# Altium footprint library rev02.PcbLib: 52 footprints (part 3 of 4)
Each footprint in its own frame and in the unit in brackets; x right, y up, seen from the top. Pads: shape width x height; smd on the part's side, far side on the other; paste and mask are expansions set on the pad; w line width, h text height; cw(c..) or ccw(c..) is an arc to the next point about the centre after c.
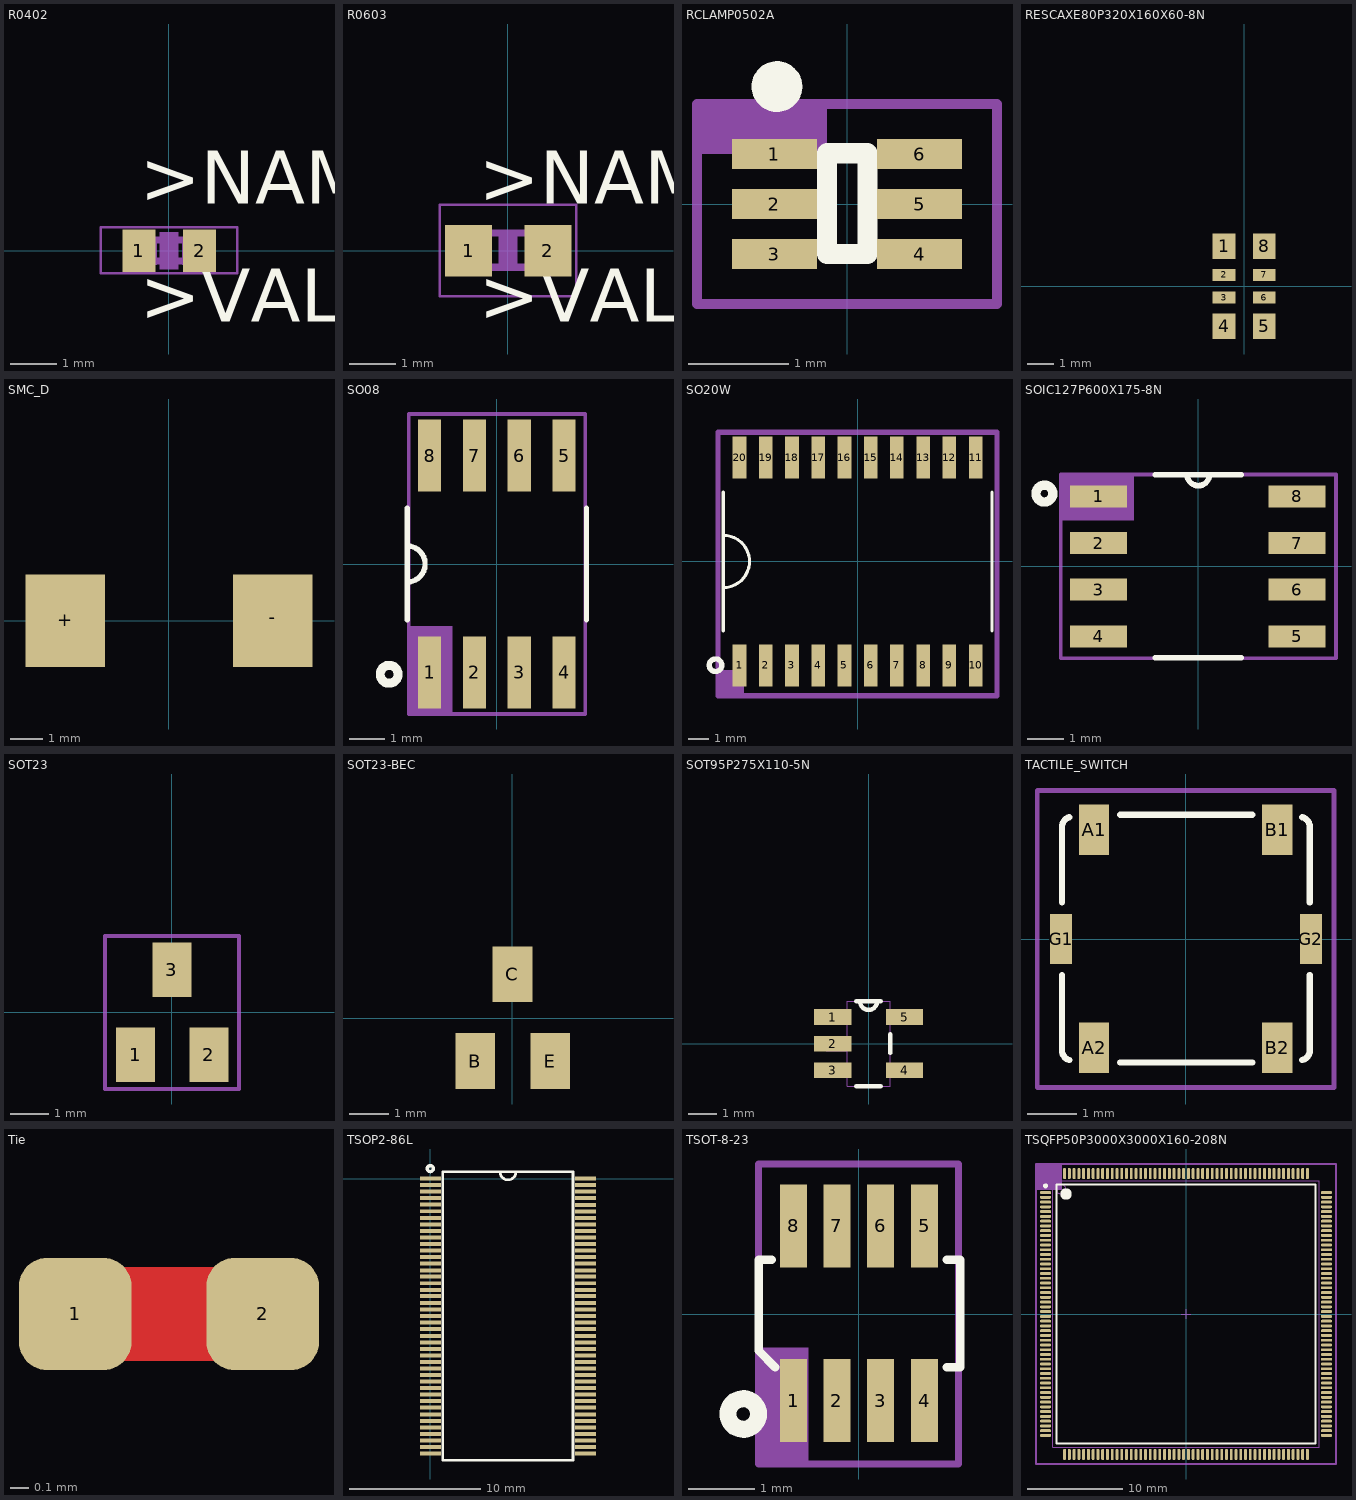
[diagram p2: the footprints below, top view; thin cyan lines are the x and y axes]

## R0402 [mil] "R0402"
pads (2):
  rect 28x36 smd: 1(-25.59,0) 2(26,0)
Top Overlay:
  text ">VALUE" at -25,-75 h77.5
  text ">NAME" at -25,25 h77.5
Mechanical 6:
  rectangle: -7.87,-15.75 8,16
Mechanical 16:
  rectangle: 11,-12 22,12
  rectangle: -21.81,-12 -10,12
  lines w2: -57.99,-19.02 -57.99,20 58,20 58,-19.02 -57.99,-19.02
  lines w6: -9.65,-8.82 10,-8.82 ; -9.65,9 10,9

## R0603 [mil] "R0603"
pads (2):
  rect 40x44 smd: 1(-33.46,0) 2(34,0)
Top Overlay:
  text ">VALUE" at -25,-75 h77.5
  text ">NAME" at -25,25 h77.5
Mechanical 6:
  rectangle: -7.87,-15.75 8,16
Mechanical 16:
  rectangle: -33,-17 -17,17
  rectangle: 17,-17 33,17
  lines w2: -57.99,-38.7 -57.99,39 58,39 58,-38.7 -57.99,-38.7
  lines w6: -17.01,-14.02 18,-14.02 ; -17.01,15 18,15

## RCLAMP0502A [mm] "RCLAMP0502A"
pads (6):
  rect 0.85x0.3 smd: 1(-0.725,0.5) 2(-0.725,0) 3(-0.725,-0.5) 4(0.725,-0.5) 5(0.725,0) 6(0.725,0.5)
Top Overlay:
  circle w0.254: c-0.7,1.175 r0.127
  lines w0.2: -0.198,-0.498 -0.198,0.508 ; 0.203,-0.498 0.203,0.508
  lines w0.203: -0.198,-0.498 0.203,-0.498 ; -0.198,0.508 0.203,0.508
Mechanical 29:
  rectangle: -1.5,0.5 -0.198,1
  lines w0.1: -1.5,-1 -1.5,1 1.5,1 1.5,-1 -1.5,-1
  text ".Designator" at -1.25,-0.5 h0.5

## RESCAXE80P320X160X60-8N [mil] "RESCAXE80P320X160X60-8N"
pads (8):
  rect 34x38 smd: 1(-30,60) 4(-30,-60) 5(30,-60) 8(30,60)
  rect 34x18 smd: 2(-30,17) 3(-30,-17) 6(30,-17) 7(30,17)
Top Overlay:
Mechanical 16:

## SMC_D [mil] "SMC_D"
pads (2):
  rect 95x111 smd: +(-124.02,0) -(125,0)
Top Overlay:

## SO08 [mil] "SO08"
pads (8):
  rect 26x80 smd: 1(-75,-121) 2(-25,-121) 3(25,-121) 4(75,-121) 5(75,121) 6(25,121) 7(-25,121) 8(-75,121)
Top Overlay:
  circle w10: c-120.08,-123.03 r10
  lines w6: -100,-62 -100,62 ; -100,-20 ccw(c-100,0) -100,20 ; 100,-62 100,62
Mechanical 29:
  rectangle: -98.43,-167.32 -49.21,-68.9
  lines w3.94: -98.43,-167.32 98.43,-167.32 98.43,167.32 -98.43,167.32 -98.43,-167.32
  text ".Designator" at 49.21,-137.8 h60

## SO20W [mil] "SO20W"
pads (20):
  rect 26x80 smd: 1(-225,-198) 2(-175,-198) 3(-125,-198) 4(-75,-198) 5(-25,-198) 6(25,-198) 7(75,-198) 8(125,-198) 9(175,-198) 10(225,-198) 11(225,198) 12(175,198) 13(125,198) 14(75,198) 15(25,198) 16(-25,198) 17(-75,198) 18(-125,198) 19(-175,198) 20(-225,198)
Top Overlay:
  circle w10: c-270.67,-197.83 r12.08
  lines w6: -256,-132 -256,-50 ; -256,132 -256,50 ; 256,-132 256,132 ; -256,-50 ccw(c-256,0) -256,50 ; -256,-50 -256,50
Mechanical 29:
  rectangle: -265.75,-255.91 -216.54,-206.69
  lines w10: -265.75,-255.91 265.75,-255.91 265.75,246.06 -265.75,246.06 -265.75,-255.91
  text ".Designator" at -216.54,-19.68 h60

## SOIC127P600X175-8N [mm] "SOIC127P600X175-8N"
pads (8):
  rect 1.55x0.6 smd: 1(-2.718,1.905) 2(-2.718,0.635) 3(-2.718,-0.635) 4(-2.718,-1.905) 5(2.692,-1.905) 6(2.692,-0.635) 7(2.692,0.635) 8(2.692,1.905)
Top Overlay:
  circle w0.254: c-4.191,1.981 r0.23
  lines w0.152: -1.168,-2.489 1.168,-2.489 ; -1.168,2.489 -0.305,2.489 ; 0.305,2.489 cw(c0,2.502) -0.305,2.489 ; 1.168,2.489 -0.305,2.489
Mechanical 29:
  rectangle: -3.75,1.25 -1.75,2.5
  lines w0.1: -3.75,-2.5 3.75,-2.5 3.75,2.5 -3.75,2.5 -3.75,-2.5
  text ".Designator" at -3.25,-1 h1.52

## SOT23 [mil] "SOT23"
pads (3):
  rect 40x56 smd: 1(-37.4,-43.31) 2(38,-43.31) 3(0,44)
Top Overlay:
Mechanical 29:
  lines w3.94: -68.9,-78.74 -68.9,78.74 68.9,78.74 68.9,-78.74 -68.9,-78.74
  text ".Designator" at 9.84,-59.06 h31.5

## SOT23-BEC [mil] "SOT23-BEC"
pads (3):
  rect 40x56 smd: B(-37.4,-43.31) C(0,44) E(38,-43.31)
Top Overlay:

## SOT95P275X110-5N [mil] "SOT95P275X110-5N"
pads (5):
  rect 52x22 smd: 1(-50,37) 2(-50,0) 3(-50,-37) 4(50,-37) 5(50,37)
Top Overlay:
  lines w6: -17,-59 17,-59 ; -17,59 -12,59 ; 17,59 12,59 ; 30,-13 30,13 ; -12,59 ccw(c0,59) 12,59 ; -12,59 12,59
Mechanical 16:
  lines w0: -30,-47 -59,-47 -59,-28 -30,-28 ; -30,-47 -30,-28 ; -30,-47 -30,-59 30,-59 30,-47 ; -30,-28 -30,-10 ; -30,-10 -59,-10 -59,10 -30,10 ; -30,-10 -30,10 ; -30,10 -30,28 ; -30,28 -59,28 -59,47 -30,47 ; -30,28 -30,47 ; -30,47 -30,59 -12,59 ; -12,59 ccw(c0,59) 12,59 ; -12,59 12,59 ; 12,59 30,59 30,47 ; 30,-47 59,-47 59,-28 30,-28 ; 30,-47 30,-28 ; 30,-28 30,28 ; 30,28 59,28 59,47 30,47 ; 30,28 30,47

## TACTILE_SWITCH [mil] "TACTILE_SWITCH"
pads (6):
  rect 24x40 smd: A1(-72.83,87) A2(-72.83,-86.61) B1(73,87) B2(73,-86.61)
  rect 17.72x40 smd: G1(-99.09,0) G2(99.8,0)
Top Overlay:
  lines w5: -98.43,-28.62 -98.43,-88.58 ccw(c-90.26,-88.59) -92.55,-96.43 ; -98.43,29 -98.43,89 cw(c-90.15,89.08) -92.55,97 ; -52.09,-98.43 53,-98.43 ; -52.09,99 53,99 ; 93,-96.43 ccw(c90.77,-88.5) 99,-88.58 99,-28.62 ; 93,97 cw(c90.67,89) 99,89 99,29
Mechanical 29:
  lines w3.94: -118.11,-118.11 -118.11,118.11 118.11,118.11 118.11,-118.11 -118.11,-118.11
  text ".Designator" at 19.68,-98.43 h60

## Tie [mm] "AGND to GND connector"
pads (2):
  rrect50% 0.6x0.6 smd: 1(-1209,-1196) 2(-1208,-1196)
Top Layer:
  lines w0.5: -1209,-1196 -1208,-1196

## TSOP2-86L [mil] "TSOP2-86L"
pads (86):
  rect 63x12 smd: 1(0,0) 2(0,-19.63) 3(0,-39.31) 4(0,-59) 5(0,-78.69) 6(0,-98.37) 7(0,-118) 8(0,-138) 9(0,-158) 10(0,-177) 11(0,-197) 12(0,-217) 13(0,-236) 14(0,-256) 15(0,-276) 16(0,-295) 17(0,-315) 18(0,-335) 19(0,-354) 20(0,-374) 21(0,-394) 22(0,-414) 23(0,-433.69) 24(0,-453.37) 25(0,-473.06) 26(0,-492.74) 27(0,-512.43) 28(0,-532.11) 29(0,-551.8) 30(0,-571.48) 31(0,-591.17) 32(0,-610.85) 33(0,-630.54) 34(0,-650.22) 35(0,-669.91) 36(0,-689.59) 37(0,-709.28) 38(0,-728.96) 39(0,-748.65) 40(0,-768.33) 41(0,-788.02) 42(0,-807.7) 43(0,-827.39) 44(467.46,-827.39) 45(467.46,-807.7) 46(467.46,-788.02) 47(467.46,-768.33) 48(467.46,-748.65) 49(467.46,-728.96) 50(467.46,-709.28) 51(467.46,-689.59) 52(467.46,-669.91) 53(467.46,-650.22) 54(467.46,-630.54) 55(467.46,-610.85) 56(467.46,-591.17) 57(467.46,-571.48) 58(467.46,-551.8) 59(467.46,-532.11) 60(467.46,-512.43) 61(467.46,-492.74) 62(467.46,-473.06) 63(467.46,-453.37) 64(467.46,-433.69) 65(467.46,-414) 66(467.46,-394) 67(467.46,-374) 68(467.46,-354) 69(467.46,-335) 70(467.46,-315) 71(467.46,-295) 72(467.46,-276) 73(467.46,-256) 74(467.46,-236) 75(467.46,-217) 76(467.46,-197) 77(467.46,-177) 78(467.46,-158) 79(467.46,-138) 80(467.46,-118) 81(467.46,-99) 82(467.46,-79) 83(467.46,-59) 84(467.46,-39) 85(467.46,-20) 86(467.46,0)
Top Overlay:
  circle w10: c0,30 r9.06
  lines w8: 209.84,20 ccw(c233.65,20) 257.46,20 ; 37.46,-847.4 429.46,-847.4 429.46,20 37.46,20 37.46,-847.4

## TSOT-8-23 [mil] "TSOT-8-23"
pads (8):
  rect 16x49 smd: 1(-38.39,-51.18) 2(-12.8,-51.18) 3(13,-51.18) 4(39,-51.18) 5(39,52) 6(13,52) 7(-12.8,52) 8(-38.39,52)
Top Overlay:
  circle w10: c-68.11,-59.06 r9.06
  lines w5: -51.18,32 -59.06,32 -59.06,-21.65 -49.21,-31.5 ; 52,-31.5 60,-31.5 60,32 52,32
Mechanical 29:
  rectangle: -59.06,-88.58 -29.53,-19.68
  lines w3.94: -59.06,-88.58 59.06,-88.58 59.06,88.58 -59.06,88.58 -59.06,-88.58
  text ".Designator" at 29.53,-78.74 h31.5

## TSQFP50P3000X3000X160-208N [mm] "TSQFP, 208-Leads, Body 28,00x28,00mm, Pitch 0,50mm, IPC Medium Density"
height 1.6
pads (208):
  oval 1.2x0.3 smd: 1(-14.75,12.75) 2(-14.75,12.25) 3(-14.75,11.75) 4(-14.75,11.25) 5(-14.75,10.75) 6(-14.75,10.25) 7(-14.75,9.75) 8(-14.75,9.25) 9(-14.75,8.75) 10(-14.75,8.25) 11(-14.75,7.75) 12(-14.75,7.25) 13(-14.75,6.75) 14(-14.75,6.25) 15(-14.75,5.75) 16(-14.75,5.25) 17(-14.75,4.75) 18(-14.75,4.25) 19(-14.75,3.75) 20(-14.75,3.25) 21(-14.75,2.75) 22(-14.75,2.25) 23(-14.75,1.75) 24(-14.75,1.25) 25(-14.75,0.75) 26(-14.75,0.25) 27(-14.75,-0.25) 28(-14.75,-0.75) 29(-14.75,-1.25) 30(-14.75,-1.75) 31(-14.75,-2.25) 32(-14.75,-2.75) 33(-14.75,-3.25) 34(-14.75,-3.75) 35(-14.75,-4.25) 36(-14.75,-4.75) 37(-14.75,-5.25) 38(-14.75,-5.75) 39(-14.75,-6.25) 40(-14.75,-6.75) 41(-14.75,-7.25) 42(-14.75,-7.75) 43(-14.75,-8.25) 44(-14.75,-8.75) 45(-14.75,-9.25) 46(-14.75,-9.75) 47(-14.75,-10.25) 48(-14.75,-10.75) 49(-14.75,-11.25) 50(-14.75,-11.75) 51(-14.75,-12.25) 52(-14.75,-12.75) 105(14.75,-12.75) 106(14.75,-12.25) 107(14.75,-11.75) 108(14.75,-11.25) 109(14.75,-10.75) 110(14.75,-10.25) 111(14.75,-9.75) 112(14.75,-9.25) 113(14.75,-8.75) 114(14.75,-8.25) 115(14.75,-7.75) 116(14.75,-7.25) 117(14.75,-6.75) 118(14.75,-6.25) 119(14.75,-5.75) 120(14.75,-5.25) 121(14.75,-4.75) 122(14.75,-4.25) 123(14.75,-3.75) 124(14.75,-3.25) 125(14.75,-2.75) 126(14.75,-2.25) 127(14.75,-1.75) 128(14.75,-1.25) 129(14.75,-0.75) 130(14.75,-0.25) 131(14.75,0.25) 132(14.75,0.75) 133(14.75,1.25) 134(14.75,1.75) 135(14.75,2.25) 136(14.75,2.75) 137(14.75,3.25) 138(14.75,3.75) 139(14.75,4.25) 140(14.75,4.75) 141(14.75,5.25) 142(14.75,5.75) 143(14.75,6.25) 144(14.75,6.75) 145(14.75,7.25) 146(14.75,7.75) 147(14.75,8.25) 148(14.75,8.75) 149(14.75,9.25) 150(14.75,9.75) 151(14.75,10.25) 152(14.75,10.75) 153(14.75,11.25) 154(14.75,11.75) 155(14.75,12.25) 156(14.75,12.75)
  oval 0.3x1.2 smd: 53(-12.75,-14.75) 54(-12.25,-14.75) 55(-11.75,-14.75) 56(-11.25,-14.75) 57(-10.75,-14.75) 58(-10.25,-14.75) 59(-9.75,-14.75) 60(-9.25,-14.75) 61(-8.75,-14.75) 62(-8.25,-14.75) 63(-7.75,-14.75) 64(-7.25,-14.75) 65(-6.75,-14.75) 66(-6.25,-14.75) 67(-5.75,-14.75) 68(-5.25,-14.75) 69(-4.75,-14.75) 70(-4.25,-14.75) 71(-3.75,-14.75) 72(-3.25,-14.75) 73(-2.75,-14.75) 74(-2.25,-14.75) 75(-1.75,-14.75) 76(-1.25,-14.75) 77(-0.75,-14.75) 78(-0.25,-14.75) 79(0.25,-14.75) 80(0.75,-14.75) 81(1.25,-14.75) 82(1.75,-14.75) 83(2.25,-14.75) 84(2.75,-14.75) 85(3.25,-14.75) 86(3.75,-14.75) 87(4.25,-14.75) 88(4.75,-14.75) 89(5.25,-14.75) 90(5.75,-14.75) 91(6.25,-14.75) 92(6.75,-14.75) 93(7.25,-14.75) 94(7.75,-14.75) 95(8.25,-14.75) 96(8.75,-14.75) 97(9.25,-14.75) 98(9.75,-14.75) 99(10.25,-14.75) 100(10.75,-14.75) 101(11.25,-14.75) 102(11.75,-14.75) 103(12.25,-14.75) 104(12.75,-14.75) 157(12.75,14.75) 158(12.25,14.75) 159(11.75,14.75) 160(11.25,14.75) 161(10.75,14.75) 162(10.25,14.75) 163(9.75,14.75) 164(9.25,14.75) 165(8.75,14.75) 166(8.25,14.75) 167(7.75,14.75) 168(7.25,14.75) 169(6.75,14.75) 170(6.25,14.75) 171(5.75,14.75) 172(5.25,14.75) 173(4.75,14.75) 174(4.25,14.75) 175(3.75,14.75) 176(3.25,14.75) 177(2.75,14.75) 178(2.25,14.75) 179(1.75,14.75) 180(1.25,14.75) 181(0.75,14.75) 182(0.25,14.75) 183(-0.25,14.75) 184(-0.75,14.75) 185(-1.25,14.75) 186(-1.75,14.75) 187(-2.25,14.75) 188(-2.75,14.75) 189(-3.25,14.75) 190(-3.75,14.75) 191(-4.25,14.75) 192(-4.75,14.75) 193(-5.25,14.75) 194(-5.75,14.75) 195(-6.25,14.75) 196(-6.75,14.75) 197(-7.25,14.75) 198(-7.75,14.75) 199(-8.25,14.75) 200(-8.75,14.75) 201(-9.25,14.75) 202(-9.75,14.75) 203(-10.25,14.75) 204(-10.75,14.75) 205(-11.25,14.75) 206(-11.75,14.75) 207(-12.25,14.75) 208(-12.75,14.75)
Top Overlay:
  circle w0.6: c-12.6,12.6 r0.3
  circle w0.25: c-14.75,13.45 r0.125
  lines w0.2: -13.6,-13.6 13.6,-13.6 13.6,13.6 -13.6,13.6 -13.6,-13.6
Mechanical 13:
  circle w0.1: c-13.1,13.1 r0.5
  lines w0.1: -14,-14 14,-14 14,14 -14,14 -14,-14
Mechanical 15:
  lines w0.05: -15.7,-15.7 15.7,-15.7 15.7,15.7 -15.7,15.7 -15.7,-15.7
  lines w0.1: -0.5,0 0.5,0 ; 0,-0.5 0,0.5
Mechanical 29:
  rectangle: -15.75,13 -13,15.75
  lines w0.254: -15.75,-15.75 14,-15.75 15.75,-15.75 15.75,15.75 -15.75,15.75 -15.75,-14.25 -15.75,-15.75
  text ".Designator" at -7,-0.25 h1.52
3D body: height 1.6, standoff 0.05, extent -14,-14 14,14